# Altium schematic symbol library TB004-508-12BE.SchLib: 1 symbol
Pins are listed as number, name and electrical type; pins without a type are passive.

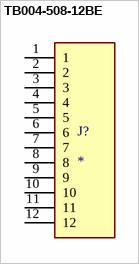
[diagram p0: symbol TB004-508-12BE]

## TB004-508-12BE
designator J?
MF: {'manufacturer': u'CUI Devices'}; MP: TB004-508-12BE; Package: None; Price: None; Value: *; Availability: Unavailable
footprint CUI_TB004-508-12BE
pins: 1, 2, 3, 4, 5, 6, 7, 8, 9, 10, 11, 12